# Altium footprint library CASE-C.PcbLib: 1 footprints
Each footprint in its own frame and in the unit in brackets; x right, y up, seen from the top. Pads: shape width x height; smd on the part's side, far side on the other; paste and mask are expansions set on the pad; w line width, h text height; cw(c..) or ccw(c..) is an arc to the next point about the centre after c.
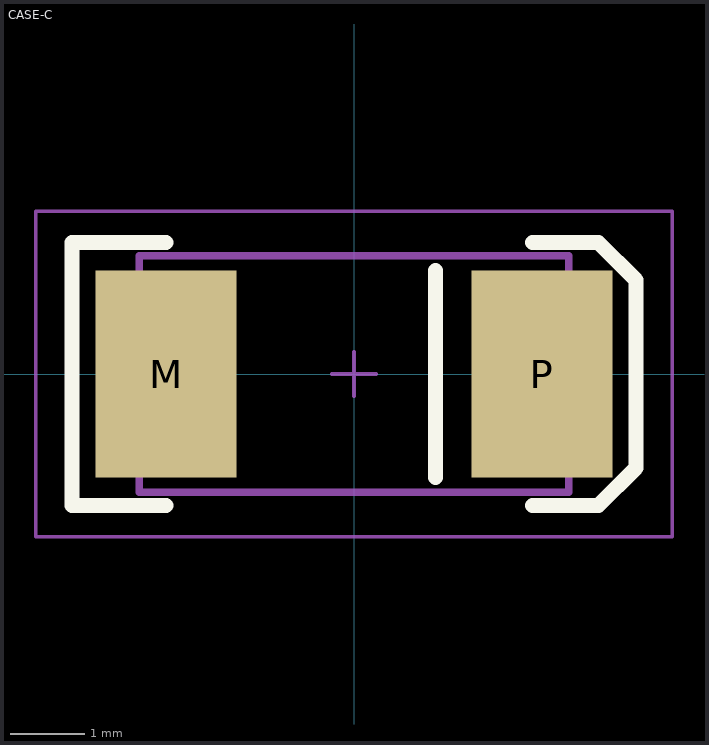
[diagram p0: the footprint, top view; thin cyan lines are the x and y axes]

## CASE-C [mil]
height 98.43
pads (2):
  rect 75x110 smd: M(-100,0) P(100,0)
TopOverlay:
  lines w7.87: 43.31,-55.12 43.31,55.12
  lines w8: -100,-70 -150,-70 -150,70 -100,70 ; 95,-70 130,-70 150,-50 150,50 130,70 95,70
Mechanical13:
  lines w3.94: -114.17,-47.24 -129.92,-47.24 -129.92,47.24 -114.17,47.24 -114.17,62.99 ; 114.17,-47.24 129.92,-47.24 129.92,47.24 114.17,47.24 ; -114.17,62.99 114.17,62.99 114.17,-62.99 -114.17,-62.99 -114.17,62.99
Mechanical15:
  lines w1.97: -11.81,0 11.81,0 ; 0,-11.81 0,11.81 ; -169.29,-86.61 169.29,-86.61 169.29,86.61 -169.29,86.61 -169.29,-86.61
3D body: height 59.06, standoff 0, extent -129.9,-47.22 -114.19,47.22
3D body: height 98.43, standoff 0, extent -114.15,-62.97 114.15,62.97
3D body: height 59.06, standoff 0, extent 114.19,-47.22 129.9,47.22